# Altium footprint library Capasitors.PcbLib: 66 footprints (part 3 of 5)
Each footprint in its own frame and in the unit in brackets; x right, y up, seen from the top. Pads: shape width x height; smd on the part's side, far side on the other; paste and mask are expansions set on the pad; w line width, h text height; cw(c..) or ccw(c..) is an arc to the next point about the centre after c.
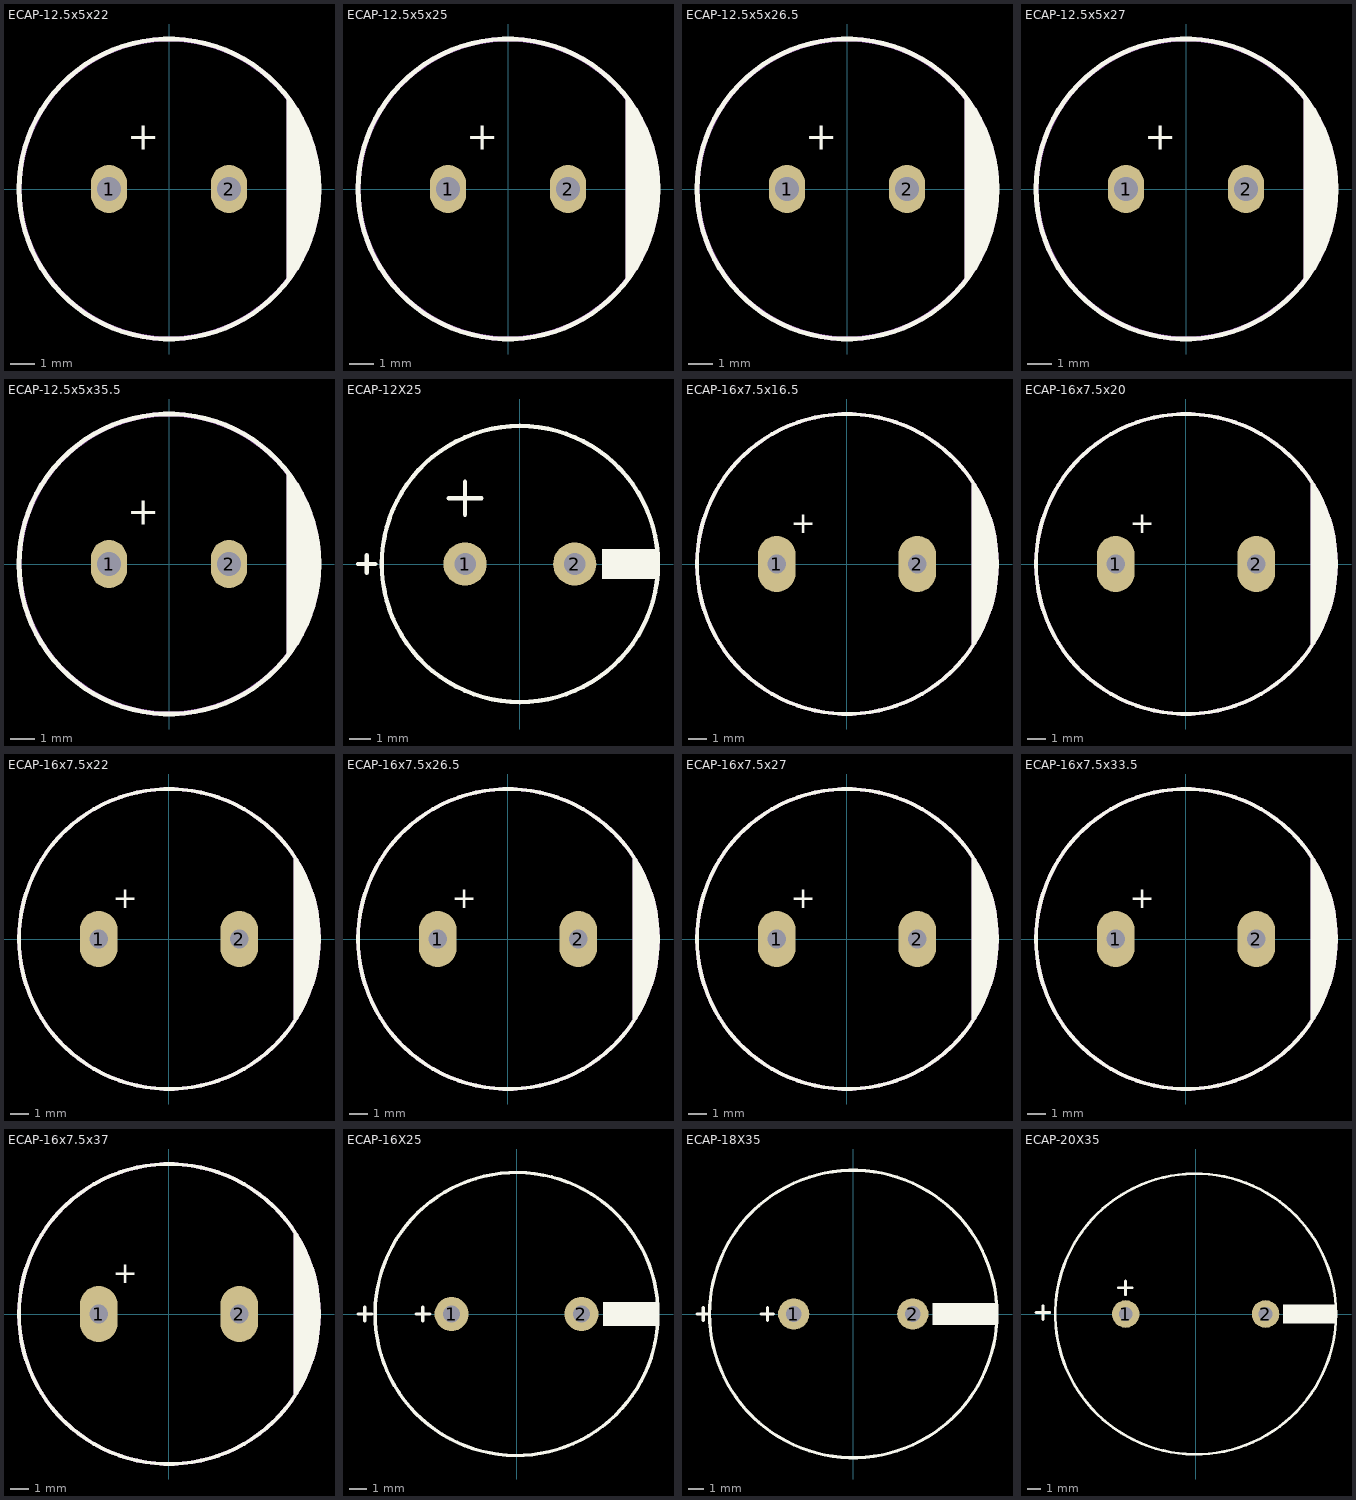
[diagram p2: the footprints below, top view; thin cyan lines are the x and y axes]

## ECAP-12.5x5x22 [mm] "12.5MM Diameter, 5MM Lead Spacing Aluminium Capacitor"
height 22
pads (2):
  oval 1.5x2 hole 1: 1(-2.5,0) 2(2.5,0)
Top Overlay:
  circle w0.2: c0,0 r6.25
  region: 5,-3.75 5,3.75 5.75,2.5 6.25,1 6.25,0 6,-1.5 5.75,-2.5
  lines w0.2: 5,-3.75 5,3.75
  text "+" at -1.75,1.25 h2
Mechanical 13:
  circle w0.2: c0,0 r6.241
  lines w0.2: 5,-3.75 5,3.75
3D body "CAP ALTH D-12.5MM L-5.0MM H-22MM.STEP": height 22.2, standoff -3, extent -6.25,-6.249 6.25,6.249

## ECAP-12.5x5x25 [mm] "12.5MM Diameter, 5MM Lead Spacing Aluminium Capacitor"
height 25
pads (2):
  oval 1.5x2 hole 1: 1(-2.5,0) 2(2.5,0)
Top Overlay:
  circle w0.2: c0,0 r6.25
  region: 5,-3.75 5,3.75 5.75,2.5 6.25,1 6.25,0 6,-1.5 5.75,-2.5
  lines w0.2: 5,-3.75 5,3.75
  text "+" at -1.75,1.25 h2
Mechanical 13:
  circle w0.2: c0,0 r6.241
  lines w0.2: 5,-3.75 5,3.75
3D body "CAP ALTH D-12.5MM L-5.0MM H-25MM.STEP": height 25.2, standoff -3, extent -6.25,-6.249 6.25,6.25

## ECAP-12.5x5x26.5 [mm] "12.5MM Diameter, 5MM Lead Spacing Aluminium Capacitor"
height 26.5
pads (2):
  oval 1.5x2 hole 1: 1(-2.5,0) 2(2.5,0)
Top Overlay:
  circle w0.2: c0,0 r6.25
  region: 5,-3.75 5,3.75 5.75,2.5 6.25,1 6.25,0 6,-1.5 5.75,-2.5
  lines w0.2: 5,-3.75 5,3.75
  text "+" at -1.75,1.25 h2
Mechanical 13:
  circle w0.2: c0,0 r6.241
  lines w0.2: 5,-3.75 5,3.75
3D body "CAP ALTH D-12.5MM L-5.0MM H-26.5MM.STEP": height 26.7, standoff -3, extent -6.25,-6.25 6.25,6.25

## ECAP-12.5x5x27 [mm] "12.5MM Diameter, 5MM Lead Spacing Aluminium Capacitor"
height 27
pads (2):
  oval 1.5x2 hole 1: 1(-2.5,0) 2(2.5,0)
Top Overlay:
  circle w0.2: c0,0 r6.25
  region: 5,-3.75 5,3.75 5.75,2.5 6.25,1 6.25,0 6,-1.5 5.75,-2.5
  lines w0.2: 5,-3.75 5,3.75
  text "+" at -1.75,1.25 h2
Mechanical 13:
  circle w0.2: c0,0 r6.241
  lines w0.2: 5,-3.75 5,3.75
3D body "CAP ALTH D-12.5MM L-5.0MM H-27MM.STEP": height 27.2, standoff -3, extent -6.25,-6.25 6.25,6.25

## ECAP-12.5x5x35.5 [mm] "12.5MM Diameter, 5MM Lead Spacing Aluminium Capacitor"
height 35.5
pads (2):
  oval 1.5x2 hole 1: 1(-2.5,0) 2(2.5,0)
Top Overlay:
  circle w0.2: c0,0 r6.25
  region: 5,-3.75 5,3.75 5.75,2.5 6.25,1 6.25,0 6,-1.5 5.75,-2.5
  lines w0.2: 5,-3.75 5,3.75
  text "+" at -1.75,1.25 h2
Mechanical 13:
  circle w0.2: c0,0 r6.241
  lines w0.2: 5,-3.75 5,3.75
3D body "CAP ALTH D-12.5MM L-5.0MM H-35.5MM.STEP": height 35.7, standoff -3, extent -6.25,-6.25 6.25,6.25

## ECAP-12X25 [mm] "Cap Elec, D12.0X25.0H pitch: 5.0mm, RB.2/.5"
pads (2):
  round 2 hole 1: 1(-2.54,0) 2(2.54,0)
Top Overlay:
  circle w0.2: c0,0 r6.4
  rectangle: 3.8,-0.7 6.4,0.7
  lines w0.2: -7.5,0 -6.7,0 ; -7.1,-0.4 -7.1,0.4 ; -3.302,3.048 -1.778,3.048 ; -2.54,2.286 -2.54,3.81
3D body "User Library-Cap-EL(12_5x25-5)T.step": height 25.8, standoff -3.2, extent -6.25,-6.281 6.252,6.219

## ECAP-16x7.5x16.5 [mm] "16MM Diameter, 7.5MM Lead Spacing Aluminium Capacitor"
height 16.5
pads (2):
  oval 2x3 hole 1: 1(-3.75,0) 2(3.75,0)
Top Overlay:
  circle w0.2: c0,0 r8
  region: 6.75,-4.25 6.75,4.25 7.5,2.75 8,1 8,0 7.75,-1.75 7.5,-2.75
  lines w0.2: 6.75,-4.25 6.75,4.25
  text "+" at -3,1.25 h2
Mechanical 13:
  circle w0.2: c0,0 r8
  lines w0.2: 6.75,-4.25 6.75,4.25
3D body "CAP ALTH D-16MM L-7.5MM H-16.5MM .STEP": height 16.7, standoff -3, extent -8,-7.998 8,7.998

## ECAP-16x7.5x20 [mm] "16MM Diameter, 7.5MM Lead Spacing Aluminium Capacitor"
height 20
pads (2):
  oval 2x3 hole 1: 1(-3.75,0) 2(3.75,0)
Top Overlay:
  circle w0.2: c0,0 r8
  region: 6.75,-4.25 6.75,4.25 7.5,2.75 8,1 8,0 7.75,-1.75 7.5,-2.75
  lines w0.2: 6.75,-4.25 6.75,4.25
  text "+" at -3,1.25 h2
Mechanical 13:
  circle w0.2: c0,0 r8
  lines w0.2: 6.75,-4.25 6.75,4.25
3D body "CAP ALTH D-16MM L-7.5MM H-20MM .STEP": height 20.2, standoff -3, extent -8,-7.998 8,7.998

## ECAP-16x7.5x22 [mm] "16MM Diameter, 7.5MM Lead Spacing Aluminium Capacitor"
height 22
pads (2):
  oval 2x3 hole 1: 1(-3.75,0) 2(3.75,0)
Top Overlay:
  circle w0.2: c0,0 r8
  region: 6.75,-4.25 6.75,4.25 7.5,2.75 8,1 8,0 7.75,-1.75 7.5,-2.75
  lines w0.2: 6.75,-4.25 6.75,4.25
  text "+" at -3,1.25 h2
Mechanical 13:
  circle w0.2: c0,0 r8
  lines w0.2: 6.75,-4.25 6.75,4.25
3D body "CAP ALTH D-16MM L-7.5MM H-22MM .STEP": height 22.2, standoff -3, extent -8,-7.998 8,7.998

## ECAP-16x7.5x26.5 [mm] "16MM Diameter, 7.5MM Lead Spacing Aluminium Capacitor"
height 26.5
pads (2):
  oval 2x3 hole 1: 1(-3.75,0) 2(3.75,0)
Top Overlay:
  circle w0.2: c0,0 r8
  region: 6.75,-4.25 6.75,4.25 7.5,2.75 8,1 8,0 7.75,-1.75 7.5,-2.75
  lines w0.2: 6.75,-4.25 6.75,4.25
  text "+" at -3,1.25 h2
Mechanical 13:
  circle w0.2: c0,0 r8
  lines w0.2: 6.75,-4.25 6.75,4.25
3D body "CAP ALTH D-16MM L-7.5MM H-26.5MM .STEP": height 26.7, standoff -3, extent -8,-7.997 8,7.998

## ECAP-16x7.5x27 [mm] "16MM Diameter, 7.5MM Lead Spacing Aluminium Capacitor"
height 27
pads (2):
  oval 2x3 hole 1: 1(-3.75,0) 2(3.75,0)
Top Overlay:
  circle w0.2: c0,0 r8
  region: 6.75,-4.25 6.75,4.25 7.5,2.75 8,1 8,0 7.75,-1.75 7.5,-2.75
  lines w0.2: 6.75,-4.25 6.75,4.25
  text "+" at -3,1.25 h2
Mechanical 13:
  circle w0.2: c0,0 r8
  lines w0.2: 6.75,-4.25 6.75,4.25
3D body "CAP ALTH D-16MM L-7.5MM H-27MM .STEP": height 27.2, standoff -3, extent -8,-7.997 8,7.998

## ECAP-16x7.5x33.5 [mm] "16MM Diameter, 7.5MM Lead Spacing Aluminium Capacitor"
height 33.5
pads (2):
  oval 2x3 hole 1: 1(-3.75,0) 2(3.75,0)
Top Overlay:
  circle w0.2: c0,0 r8
  region: 6.75,-4.25 6.75,4.25 7.5,2.75 8,1 8,0 7.75,-1.75 7.5,-2.75
  lines w0.2: 6.75,-4.25 6.75,4.25
  text "+" at -3,1.25 h2
Mechanical 13:
  circle w0.2: c0,0 r8
  lines w0.2: 6.75,-4.25 6.75,4.25
3D body "CAP ALTH D-16MM L-7.5MM H-33.5MM.STEP": height 33.7, standoff -3, extent -8,-8 8,8

## ECAP-16x7.5x37 [mm] "16MM Diameter, 7.5MM Lead Spacing Aluminium Capacitor"
height 37
pads (2):
  oval 2x3 hole 1: 1(-3.75,0) 2(3.75,0)
Top Overlay:
  circle w0.2: c0,0 r8
  region: 6.75,-4.25 6.75,4.25 7.5,2.75 8,1 8,0 7.75,-1.75 7.5,-2.75
  lines w0.2: 6.75,-4.25 6.75,4.25
  text "+" at -3,1.25 h2
Mechanical 13:
  circle w0.2: c0,0 r8
  lines w0.2: 6.75,-4.25 6.75,4.25
3D body "CAP ALTH D-16MM L-7.5MM H-37MM.STEP": height 37.2, standoff -3, extent -8,-8 8,8

## ECAP-16X25 [mm] "Cap Elec, D16.0X25.0H pitch: 7.6mm, RB.3/.6"
pads (2):
  round 2 hole 1: 1(-3.81,0) 2(3.81,0)
Top Overlay:
  rectangle: 5.07,-0.7 8.25,0.7
  lines w0.2: -9.3,0 -8.5,0 ; -8.9,-0.4 -8.9,0.4 ; -5.9,0 -5.1,0 ; -5.5,-0.4 -5.5,0.4 ; 8.148,-1.584 cw(c0,0) 8.152,-1.563
3D body "User Library-CE_R300_D650_H1000.step": height 25.4, standoff -3.5, extent -8.25,-8.25 8.25,8.25

## ECAP-18X35 [mm] "Cap Elec, D18.0X35.0H pitch: 7.6mm, RB.3/.7"
pads (2):
  round 2 hole 1: 1(-3.81,0) 2(3.81,0)
Top Overlay:
  circle w0.2: c0,0 r9.2
  rectangle: 5.07,-0.7 9.2,0.7
  lines w0.2: -10,0 -9.2,0 ; -9.6,-0.4 -9.6,0.4 ; -5.9,0 -5.1,0 ; -5.5,-0.4 -5.5,0.4
3D body "User Library-cap-3.step": height 35.05, standoff -3.6, extent -10.426,-10.433 10.475,10.425

## ECAP-20X35 [mm] "Cap Elec, D20.0X35.0H pitch: 10.0mm, RB.4/.8"
pads (2):
  round 2 hole 1: 1(-5.08,0) 2(5.08,0)
Top Overlay:
  circle w0.2: c0,0 r10.2
  rectangle: 6.34,-0.7 10.2,0.7
  lines w0.2: -11.6,0.1 -10.6,0.1 ; -11.1,-0.4 -11.1,0.6 ; -5.6,1.9 -4.6,1.9 ; -5.1,1.4 -5.1,2.4
3D body "User Library-Cap electrolitic radial 20x35.STEP": height 35.8, standoff -0.7, extent -9.996,-9.999 9.996,9.998